# EAGLE library part THAT1280 (library Chrisvossetje)
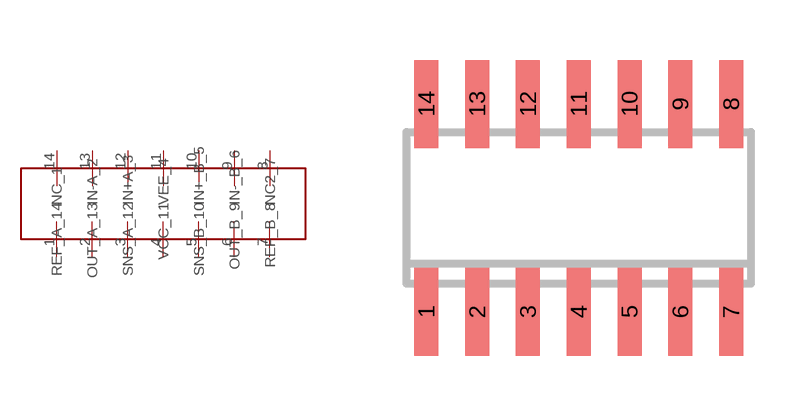
[diagram p1: symbol with the pads of SO-14; footprint SO-14]

Designator prefix -

## THAT1280  [SO-14]
1  NC_1
2  IN-A_2
3  IN+A_3
4  VEE_4
5  IN+_B_5
6  IN-_B_6
7  NC2_7
8  REF_B_8
9  OUT_B_9
10  SNS_B_10
11  VCC_11
12  SNS_A_12
13  OUT_A_13
14  REF_A_14

## Footprint SO-14 (pad centres in mm)
Small Outline Narrow Plastic Gull Wing 150-mil body, package type SL
smd 0.6 x 2.2: 1 -3.81,-2.6; 2 -2.54,-2.6; 3 -1.27,-2.6; 4 0,-2.6; 5 1.27,-2.6; 6 2.54,-2.6; 7 3.81,-2.6; 8 3.81,2.6; 9 2.54,2.6; 10 1.27,2.6; 11 0,2.6; 12 -1.27,2.6; 13 -2.54,2.6; 14 -3.81,2.6